# Altium integrated library James' Parts Library.IntLib: 18 symbols
Pins are listed as number, name and electrical type; pins without a type are passive.

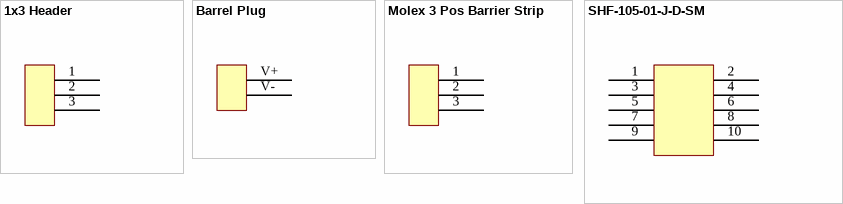
[diagram p0: symbols 1x3 Header to SHF-105-01-J-D-SM]

## 1x3 Header
designator P?  (value not drawn)
Connector Header, Single-row 3-position, 0.100" pitch; ComponentLink1Description: Manufacturer Link
footprint 1x3 Pos Header (Connector Header, Single-row 3-position, 0.100" pitch)
pins: 1, 2, 3

## Barrel Plug
designator P?, comment Barrel Power Plug
Power Plug; ComponentLink1Description: Manufacturer Link
footprint Power Plug
pins: V+, V- 2

## Molex 3 Pos Barrier Strip
designator Barrier Strip, comment 3 Pos  (value not drawn)
Molex 3 Pos Barrier Strip; ComponentLink1Description: Manufacturer Link; ComponentLink1URL: http://www.Molex.com/; ComponentLink2Description: Datasheet
footprint Molex 3 Pos Barrier Strip
pins: 1, 2, 3

## SHF-105-01-J-D-SM
designator J?
Samtec 10 pin .050 pitch shrouded connector; ComponentLink1Description: Manufacturer Link; ComponentLink1URL: http://www.samtec.com; ComponentLink2Description: Datasheet
footprint Samtec SHF-105-01-J-D-SM (Samtec Gadgeteer Connector)
pins: 1 3.3V, 2 5V, 3, 4, 5, 6, 7, 8, 9, 10 GND


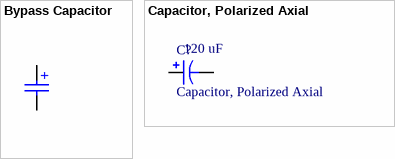
[diagram p1: symbols Bypass Capacitor to Capacitor, Polarized Axial]

## Bypass Capacitor
designator C?, comment value 0.1 uF  (hidden comment: Bypass Cap)
Bypass Capacitor:; ComponentLink1Description: Manufacturer Link
simulation model CAP (Capacitor)
signal-integrity model Cap
footprint 0402 [1005] (Chip Capacitor; Body 1.0 x 0.5 mm (LxW typ))
footprint 0504 [1310] (Chip Capacitor; Body 1.2 x 1.0 mm (LxW typ))
footprint 0603 [1608] (Chip Capacitor; Body 1.6 x 0.8 mm (LxW typ))
footprint 0805 [2012] (Chip Capacitor; Body 2.0 x 1.2 mm (LxW typ))
pins: 1, 2
text: +

## Capacitor, Polarized Axial
designator C?  value 120 uF
Polarized Capacitor (Axial); Published: 8-Jun-2000; LatestRevisionDate: 17-Jul-2002; LatestRevisionNote: Re-released for DXP Platform.; PackageReference: POLAR0.8; Publisher: Altium Limited; PackageDescription: Polarized Capacitor; 2 Leads
simulation model CAP (Capacitor)
signal-integrity model Cap Pol
footprint CAPAxial680X1220_VERT (Capacitor, Polarized Axial)
pins: 1, 2
1 alternate drawing of the same symbol


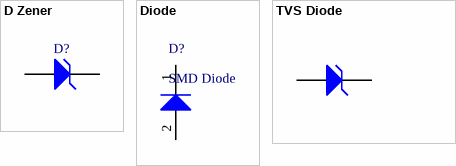
[diagram p2: symbols D Zener to TVS Diode]

## D Zener
designator D?
Zener Diode; Published: 8-Jun-2000; LatestRevisionDate: 17-Jul-2002; LatestRevisionNote: Re-released for DXP Platform.; PackageReference: DIODE-0.7; Publisher: Altium Limited; PackageDescription: Diode, Thru-Hole; 2 Leads; 0.7 in Pin Spacing
simulation model ZENER (Diode)
signal-integrity model D Zener
footprint DIODE Axial 400 mil (Diode, Thru-Hole; 2 Leads; 0.4 in Pin Spacing)
pins: 1 A, 2 K

## Diode
designator D?, comment SMD Diode
Diode, SMD, 0805
footprint Diode (3mm X 1mm X 4.65mm) SMD
pins: 1, 2

## TVS Diode
designator TVS?
Diode, TVS, Axial; Published: 17-Dec-2003; DatasheetDocument: 29-Apr-2002; ComponentLink1Description: Manufacturer Link; ComponentLink2Description: Datasheet
simulation model P6KE20A (Vishay TVS Diode)
footprint DIODE Axial 400 mil (Diode, Thru-Hole; 2 Leads; 0.4 in Pin Spacing)
pins: 1 A, 2 K


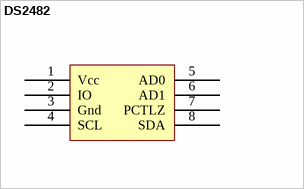
[diagram p3: symbol DS2482]

## DS2482
designator U?, comment DS2482-100
I2C to 1-Wire Bridge; ComponentLink1Description: Manufacturer Link; ComponentLink2Description: Datasheet
footprint DS2482-100
footprint DS2482-100
pins: 1 Vcc (power), 2 IO, 3 Gnd (power), 4 SCL, 5 AD0, 6 AD1, 7 PCTLZ, 8 SDA


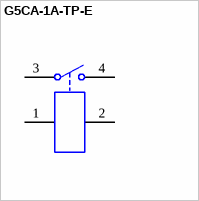
[diagram p4: symbol G5CA-1A-TP-E]

## G5CA-1A-TP-E
designator K?, comment Relay - SPST
Omron G5CA-1A-TP-E PCB Mount 12 V Relay with 15A contacts; ComponentLink1Description: Manufacturer Link; ComponentLink1URL: http://www.Omron.com/; ComponentLink2Description: Datasheet
footprint Omron G5CA-1A-TP
footprint Omron G5CA-1A-TP (Omrom G5CA-1A-TP PCB Relay)
pins: 1, 2, 3, 4


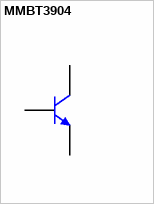
[diagram p5: symbol MMBT3904]

## MMBT3904
designator Q?
NPN General Purpose Amplifier
footprint SOT-23 (SOT23, 3-Leads, Body 2.9x1.3mm, Pitch 0.95mm, Lead Span 2.5mm, IPC High Density)
pins: 1 E, 2 B, 3 C


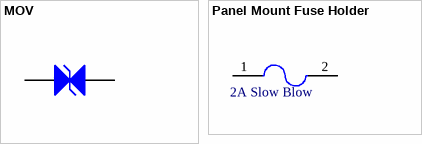
[diagram p6: symbols MOV to Panel Mount Fuse Holder]

## MOV
designator V?
Metal Oxide Varistor; Value: 150 V; ComponentLink1Description: Manufacturer Link; ComponentLink2Description: Datasheet
footprint Varistor_7.62and10mm (MOV Thru-Hole, Radial; Body 6.8 x 3 mm (WxT) Pin Spacing 7.62 mm (typ))
pins: 1 A, 2 K

## Panel Mount Fuse Holder
designator F?, comment Panel Mount Fuze  value 2A Slow Blow
Panel Mount Fuze Holder; ComponentLink1Description: Manufacturer Link
footprint Off Board Connector (2 Position Off Board Connector)
pins: 1, 2


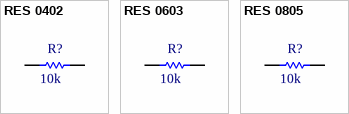
[diagram p7: symbols RES 0402 to RES 0805]

## RES 0402
designator R?, comment 10k
Value: 10k
simulation model SMD Resistor
footprint RES_0402 (Chip Resistor, 2-Leads, Body 1.0x0.5mm, IPC Medium Density)
pins: 1, 2

## RES 0603
designator R?, comment 10k
Value: 10k
footprint RES_0603
simulation model SMD Resistor
pins: 1, 2

## RES 0805
designator R?, comment 10k
Value: 10k
simulation model SMD Resistor
footprint RES_0805 (Resistor -  2 x 1.4 mm (LxDia))
pins: 1, 2


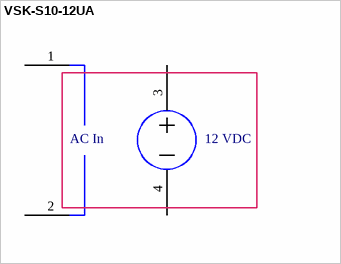
[diagram p8: symbol VSK-S10-12UA]

## VSK-S10-12UA
designator PSU?
AC/DC 12V Sealed PCB Mount Power Supply; ComponentLink1Description: Manufacturer Link; ComponentLink1URL: http://www.cui.com/; ComponentLink2Description: Datasheet; Value: 12V
footprint VSK-S10-12UA (AC_DC Power Supply)
footprint VSK-S10-12UA (AC_DC Power Supply)
pins: 1, 2, 3 (power), 4 (power)
text: AC In; 12 VDC